# EAGLE library part 6620XX235922_662010235922 (library 66200211022_Eagle_WR-MPC3_rev19b)
WR-MPC3 3.00 mm SMT Male Dual Row Vertical Header with THT Retention Clip KIND PROPERTIES: Pitch:3 mm Gender:Male MATERIAL PROPERTIES: Insulator Material:LCP Insulator Flammability Rating:UL94 V-0 Insulator Color:Black Contact Material:Copper Alloy Contact Plating:Tin Contact Type:Stamped GENERAL INFORMATION Operating Temperature:-40 up to +105 °C Compliance:RoHS Working Voltage:250V (AC) Withstanding Voltage:1500 V (AC) Contact Resistance:10 mΩ RISO:1000 MΩ CERTIFICATION UL Approval:E323964 PACKAGING PROPERTIES Packaging:Tube <https://katalog.we-online.com/media/images/v2/o33178v209%20Family_WR-MPC3_662xxx235922.jpg> Details see: https://katalog.we-online.com/en/em/MPC3_3_00_SMT_MALE_DUAL_ROW_VERTICAL_HEADER_W_THT_RETENTION_CLIP_6620XX235922 Updated by Yingchun,Shan 2019-11-13 2019 (C) Würth Elektronik
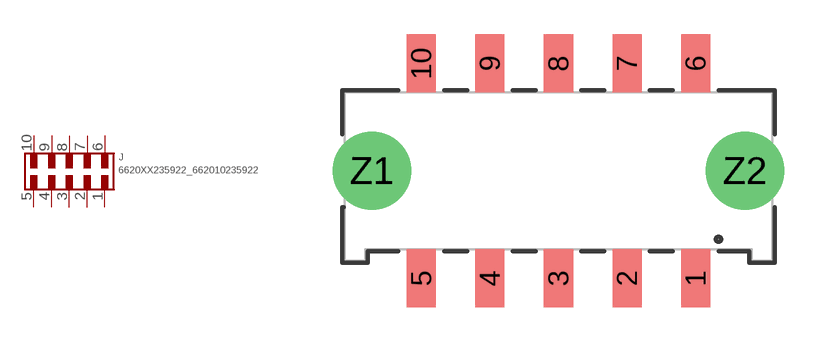
[diagram p19: symbol with the pads of 662010235922; footprint 662010235922]

Designator prefix J

## 6620XX235922_662010235922 (CONTACT-RESISTANCE: 10Ohm; DATASHEET-URL: https://katalog.we-online.com/em/datasheet/662010235922.pdf; GENDER: Male; IR1: 5A; L: 18.7mm; MATE-WITH: WR-MPC3 3.00 mm Female Dual Row Receptacle; MOUNT: SMT; PACKAGING: Tube; PART-NUMBER: 662010235922; PCB-CABLE-PANEL: PCB; PINS: 10; PITCH: 3mm; ROWS: Dual; TOL-R: max.; TYPE: Vertical; WORKING-VOLTAGE: 250V(AC))  [662010235922]
1  1  pas
2  2  pas
3  3  pas
4  4  pas
5  5  pas
6  6  pas
7  7  pas
8  8  pas
9  9  pas
10  10  pas

## Footprint 662010235922 (pad centres in mm)
WR-MPC3 3.00 mm SMT Male Dual Row Vertical Header with THT Retention Clip,10 Pins
smd 1.27 x 2.54: 1 6,-4.7; 2 3,-4.7; 3 0,-4.7; 4 -3,-4.7; 5 -6,-4.7; 6 6,4.7; 7 3,4.7; 8 0,4.7; 9 -3,4.7; 10 -6,4.7
drill 2.41: Z1 -8.16,0; Z2 8.16,0